# EAGLE library part WIZ850IO (library WIZ850io)
https://www.digikey.com/products/en?keywords=wiz850io
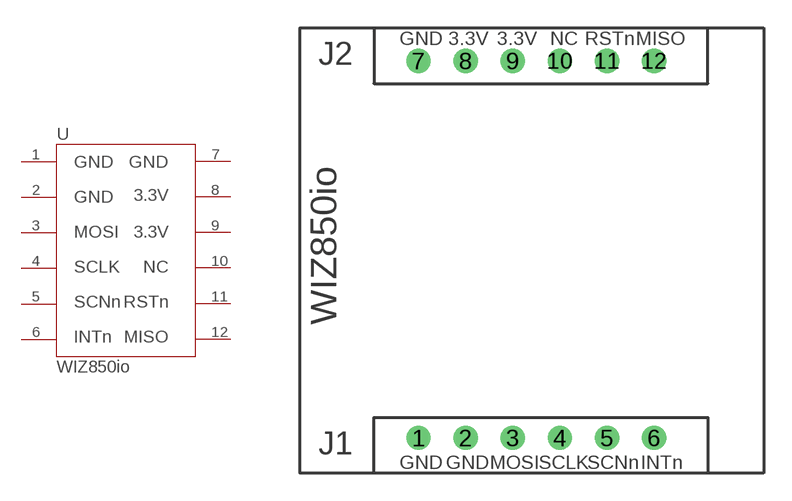
[diagram p0: symbol with the pads of WIZ850IO; footprint WIZ850IO]

Designator prefix -

## WIZ850IO  [WIZ850IO]
1  1  pas
2  2  pas
3  3  pas
4  4  pas
5  5  pas
6  6  pas
7  7  pas
8  8  pas
9  9  pas
10  10  pas
11  11  pas
12  12  pas

## Footprint WIZ850IO (pad centres in mm)
WIZ850io Compact Ethernet Module https://www.digikey.com/products/en?keywords=wiz850io
drill 0.8: 1 -6.3,-9.53; 2 -3.76,-9.53; 3 -1.22,-9.53; 4 1.32,-9.53; 5 3.86,-9.53; 6 6.4,-9.53; 7 -6.3,10.79; 8 -3.76,10.79; 9 -1.22,10.79; 10 1.32,10.79; 11 3.86,10.79; 12 6.4,10.79